# Altium footprint library fszhang.PcbLib: 298 footprints (part 19 of 19)
Each footprint in its own frame and in the unit in brackets; x right, y up, seen from the top. Pads: shape width x height; smd on the part's side, far side on the other; paste and mask are expansions set on the pad; w line width, h text height; cw(c..) or ccw(c..) is an arc to the next point about the centre after c.
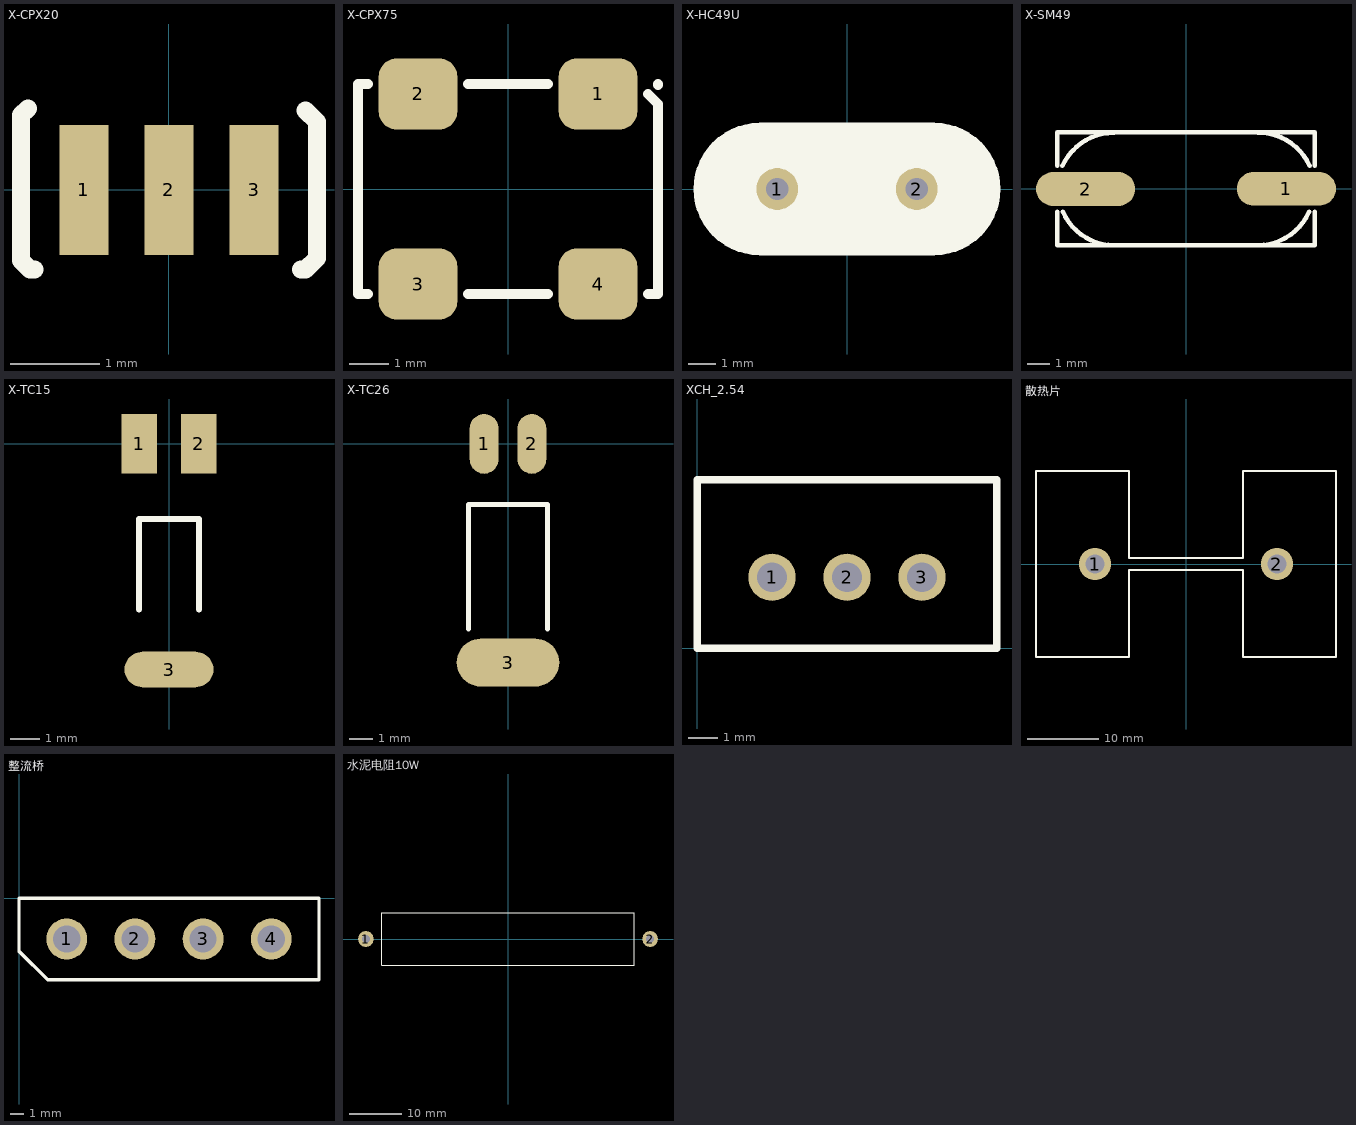
[diagram p18: the footprints below, top view; thin cyan lines are the x and y axes]

## X-CPX20 [mm] "贴片晶振"
pads (3):
  rect 0.55x1.45 smd: 1(-0.95,0) 2(0,0) 3(0.95,0)
Top Overlay:
  lines w0.2: -1.576,0.911 -1.651,0.836 -1.651,-0.789 -1.551,-0.889 -1.501,-0.889 ; 1.474,-0.889 1.524,-0.889 1.651,-0.762 1.651,0.762 1.524,0.889

## X-CPX75 [mm]
height 14.8
pads (4):
  rrect50% 2x1.8 smd: 1(2.281,2.415) 2(-2.291,2.415) 3(-2.291,-2.411) 4(2.281,-2.411)
Top Overlay:
  lines w0.254: -3.561,-2.665 -3.815,-2.665 -3.815,2.669 -3.561,2.669 ; -1.021,-2.665 1.011,-2.665 ; -1.021,2.669 1.011,2.669 ; 3.551,-2.665 3.805,-2.665 3.805,2.161 3.551,2.415 ; 3.805,2.644 3.805,2.669

## X-HC49U [mil] "插件晶振"
height 157.48
pads (2):
  round 60 hole 32: 1(-100,0) 2(100,0)
Top Overlay:
  lines w10: -125,-90 cw(c-125,0) -125,90 125,90 cw(c125,0) 125,-90 -125,-90
  lines w177.17: -125,0 125,0

## X-SM49 [mm]
height 14.8
pads (2):
  oval 4.4x1.5 smd: 1(4.45,0.004) 2(-4.45,-0.004)
Top Overlay:
  lines w0.2: -5.7,-2.499 5.718,-2.499 ; -5.7,-2.496 -5.7,-1.016 ; -5.7,1.016 -5.7,2.504 5.718,2.504 5.718,1.016 ; -5.477,1.023 cw(c-3.202,-0.013) -3.175,2.487 ; -5.461,-1.016 ccw(c-3.176,-0.001) -3.176,-2.501 ; 3.175,-2.5 ccw(c3.175,0) 5.46,-1.015 ; 3.175,2.496 cw(c3.202,-0.004) 5.48,1.025 ; 5.718,-2.496 5.718,-1.016

## X-TC15 [mm] "圆柱晶振1"
pads (3):
  rect 1.2x2 smd: 1(-1,0) 2(1,0)
  oval 3x1.2 smd: 3(0,-7.62)
Top Overlay:
  lines w0.2: -1.016,-5.588 -1.016,-2.54 1.016,-2.54 1.016,-5.588
3D body: height 1.1, standoff 0.9, extent 0.535,-3 0.735,0
3D body: height 1.1, standoff 0.9, extent -0.735,-3 -0.535,0
3D body: height 1.99, standoff 0, extent -0.998,-8.286 0.998,-2.286

## X-TC26 [mm] "圆柱晶振2"
pads (3):
  oval 1.2x2.5 smd: 1(-1,0) 2(1,0)
  oval 4.3x2 smd: 3(0,-9.144)
Top Overlay:
  lines w0.2: -1.651,-7.747 -1.651,-2.54 1.651,-2.54 1.651,-7.747

## XCH_2.54 [mm]
pads (3):
  round 1.6 hole 1: 1(2.54,2.4) 2(5.08,2.4) 3(7.62,2.4)
Top Overlay:
  lines w0.254: 0,0 10.16,0 10.16,5.7 0,5.7 0,0

## 散热片 [mm]
pads (2):
  round 4.5 hole 2.7: 1(-12.74,0) 2(12.74,0)
Top Overlay:
  lines w0.254: -21,-13 -8,-13 -8,-0.83 8,-0.83 8,-13 21,-13 21,13 8,13 8,0.83 -8,0.83 -8,13 -21,13 -21,-13

## 整流桥 [mm]
pads (4):
  round 3 hole 2: 1(3.5,-3) 2(8.5,-3) 3(13.5,-3) 4(18.5,-3)
Top Overlay:
  lines w0.254: 0,-3.9 0,0 22,0 22,-6 2.1,-6 0,-3.9

## 水泥电阻10W [mm] "插件电阻"
height 2.54
pads (2):
  round 3 hole 1.5: 1(-27,0) 2(27,0)
Top Overlay:
  lines w0.2: -24,-5 -24,5 24,5 24,-5 -24,-5